# Altium integrated library BQ24232HARGTR.IntLib: 1 symbol
Pins are listed as number, name and electrical type; pins without a type are passive.

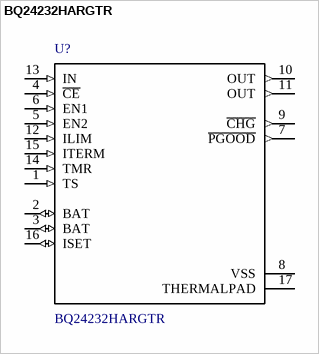
[diagram p0: symbol BQ24232HARGTR]

## BQ24232HARGTR
designator U?
USB-Friendly Lithium-Ion Battery Charger and Power-Path Management IC 0.5A 10.5V OVP 16-Pin QFN T/R; MF: Texas Instruments; SnapEDA_Link: https://www.snapeda.com/parts/BQ24232HARGTR/Texas%20Instruments/view-part/?ref=snap; Digi-Key_Part_Number: 296-49554-1-ND; Digi-Key_Purchase_URL: https://www.digikey.com/product-detail/en/texas-instruments/BQ24232HARGTR/296-49554-1-ND/9462552?utm_source=snapeda&utm_medium=aggregator&utm_campaign=symbol; MP: BQ24232HARGTR; Package: VFQFN-16 Texas Instruments; Value: *
footprint *QFN50P300X300X100-17N
pins: 1 TS (in), 2 BAT (io), 3 BAT (io), 4 ~{CE} (in), 5 EN2 (in), 6 EN1 (in), 7 ~{PGOOD} (out), 8 VSS (power), 9 ~{CHG} (out), 10 OUT (out), 11 OUT (out), 12 ILIM (in), 13 IN (in), 14 TMR (in), 15 ITERM (in), 16 ISET (io), 17 THERMALPAD (power)